# Altium footprint library Battery Holder.PcbLib: 25 footprints (part 2 of 2)
Each footprint in its own frame and in the unit in brackets; x right, y up, seen from the top. Pads: shape width x height; smd on the part's side, far side on the other; paste and mask are expansions set on the pad; w line width, h text height; cw(c..) or ccw(c..) is an arc to the next point about the centre after c.
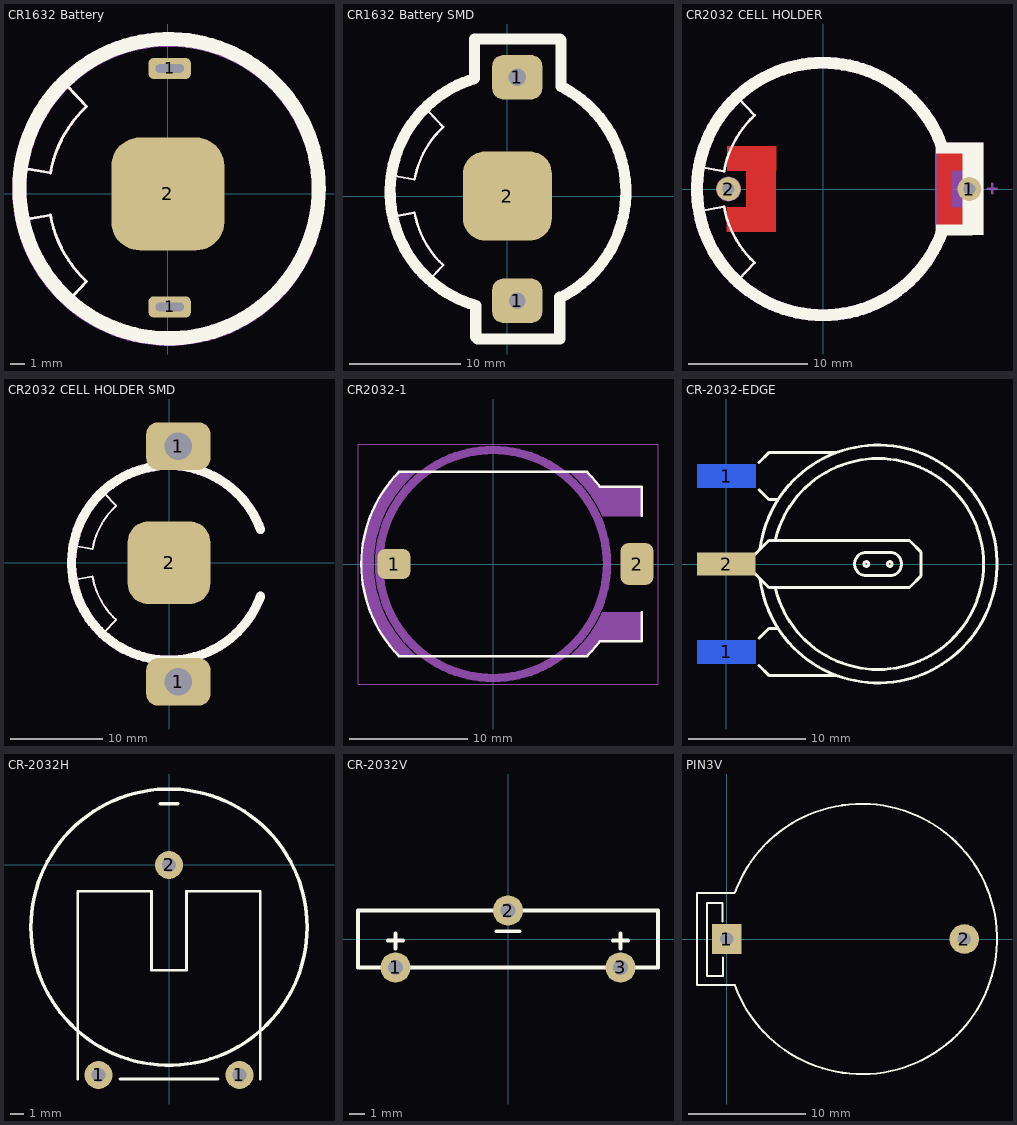
[diagram p1: the footprints below, top view; thin cyan lines are the x and y axes]

## CR1632 Battery [mm]
pads (3):
  rrect50% 3x1.5 hole 0.6 slot 2 at 0 deg: 1(0.127,-8.001) 1(0.127,8.89)
  rrect50% 8x8 smd: 2(0,0)
Top Overlay:
  lines w0.2: -10.325,-1.85 -8.35,-1.5 ; -10.325,1.85 -8.35,1.5 ; -8.325,-1.496 ccw(c0,0) -5.759,-6.195 -7.1,-7.625 ; -8.325,1.496 cw(c0,0) -5.759,6.195 -7.1,7.625
  lines w1: 10.668,-0.133 cw(c0.08,0.377) 10.668,-0.127
Mechanical 7:
  lines w0.2: -10.325,-1.85 -8.35,-1.5 ; -10.325,1.85 -8.35,1.5 ; -8.325,-1.496 ccw(c0,0) -5.759,-6.195 -7.1,-7.625 ; -8.325,1.496 cw(c0,0) -5.759,6.195 -7.1,7.625
  lines w1: 10.022,3.989 ccw(c0.074,0.328) 10.033,-3.302
3D body "keystone 3012-30.step": height 5, standoff -1.73, extent -7.417,-8.509 7.925,9.434
3D body "cr-1632 batt.step": height -0.41, standoff -3.61, extent -8,-7.619 8,8.381

## CR1632 Battery SMD [mm]
pads (3):
  rrect50% 4.5x4 hole 1.5: 1(0.889,-9.398)
  rrect50% 4.5x4 hole 1.6: 1(0.889,10.668)
  rrect50% 8x8 smd: 2(0,0)
Top Overlay:
  lines w0.2: -10.325,-1.85 -8.35,-1.5 ; -10.325,1.85 -8.35,1.5 ; -8.325,-1.496 ccw(c0,0) -5.759,-6.195 -7.1,-7.625 ; -8.325,1.496 cw(c0,0) -5.759,6.195 -7.1,7.625
  lines w0.254: -2.935,14.083 -2.921,14.097 ; -2.84,-12.654 -2.667,-12.827 ; 4.699,14.097 4.799,13.997
  lines w1: -2.935,14.083 -2.935,10.54 ccw(c0.08,0.377) -2.84,-9.813 -2.84,-12.654 ; -2.921,14.097 4.699,14.097 ; -2.667,-12.827 4.699,-12.827 4.699,-9.086 ; 4.797,-9.086 ccw(c0.033,0.383) 4.799,9.851 4.799,13.997
Mechanical 7:
  lines w0.2: -10.325,-1.85 -8.35,-1.5 ; -10.325,1.85 -8.35,1.5 ; -8.325,-1.496 ccw(c0,0) -5.759,-6.195 -7.1,-7.625 ; -8.325,1.496 cw(c0,0) -5.759,6.195 -7.1,7.625
3D body "cr-1632 batt.step": height -0.41, standoff -3.61, extent -7.874,-7.492 8.126,8.508
3D body "keystone 3012-301.step": height 3.97, standoff 0.01, extent -6.579,-10.973 8.763,12.243

## CR2032 CELL HOLDER [mm]
pads (2):
  round 2 hole 1: 1(12.275,0) 2(-7.95,0)
Top Layer:
  region: 10.802,3.591 9.577,3.591 9.577,-3.609 10.802,-3.609
  region: 9.577,-1.534 9.577,-3.609 12.302,-3.609 12.302,-1.534
  region: 12.298,1.534 12.298,3.609 9.573,3.609 9.573,1.534
  region: -8.109,-1.527 -8.109,-3.602 -3.959,-3.602 -3.959,-1.527
  region: -3.941,1.527 -3.941,3.602 -8.09,3.602 -8.09,1.527
  rectangle: -6.475,-3.6 -3.95,3.6
Top Overlay:
  region: 12.59,-3.877 12.59,-3.002 9.466,-3.002 9.466,-3.877
  region: 9.466,3.873 9.466,2.998 12.591,2.998 12.591,3.873
  rectangle: 11.716,-3.877 13.466,3.898
  lines w0.2: -10.325,-1.85 -8.35,-1.5 ; -10.325,1.85 -8.35,1.5 ; -8.325,-1.496 ccw(c0,0) -5.759,-6.195 -7.1,-7.625 ; -8.325,1.496 cw(c0,0) -5.759,6.195 -7.1,7.625 ; 10.4,-3.8 12.5,-3.8 ; 10.425,3.8 12.5,3.8
  lines w1: 9.948,3.661 ccw(c0,0) 9.959,-3.63
Mechanical 7:
  circle w0.4: c-7.95,0 r0.848
  rectangle: 9.398,-3.875 13.475,3.9
  lines w0.2: -10.325,-1.85 -8.35,-1.5 ; -10.325,1.85 -8.35,1.5 ; -8.325,-1.496 ccw(c0,0) -5.759,-6.195 -7.1,-7.625 ; -8.325,1.496 cw(c0,0) -5.759,6.195 -7.1,7.625 ; 13.796,0.026 14.396,0.026 14.596,0.026 ; 14.196,-0.374 14.196,0.426
  lines w1: 9.948,3.661 ccw(c0,0) 9.959,-3.63
3D body: height 0.8, standoff 0.1, extent -8.429,-1.202 -0.041,0.999
3D body: height 0.5, standoff 0, extent -10.561,-10.522 10.658,0.696
3D body: height 6, standoff 0, extent -10.617,-10.589 10.582,10.629
3D body: height 9.9, standoff 0, extent 9.646,-3.974 13.165,3.915
3D body: height 10, standoff 0, extent 12.652,-3.687 13.171,3.441
3D body: height 9, standoff 1, extent 9.725,-3.062 11.187,3.239
3D body: height 0.5, standoff 0, extent -10.565,-0.628 10.654,10.59
3D body: height 0.18, standoff 0, extent 10.984,-0.459 12.876,0.49
3D body: height 0.2, standoff -2.3, extent 11.887,-0.381 12.624,0.381
3D body: height 0.2, standoff -2.3, extent -8.357,-0.418 -7.518,0.395
3D body "CR 2032 Lithium Cell.step": height 5, standoff 1.8, extent -9.873,-10.127 10.127,9.873

## CR2032 CELL HOLDER SMD [mm]
pads (3):
  rrect50% 7x5.2 hole 3: 1(1.016,-12.954) 1(1.016,12.7)
  rrect50% 9x9 smd: 2(0,0)
Top Overlay:
  lines w0.2: -10.325,-1.85 -8.35,-1.5 ; -10.325,1.85 -8.35,1.5 ; -8.325,-1.496 ccw(c0,0) -5.759,-6.195 -7.1,-7.625 ; -8.325,1.496 cw(c0,0) -5.759,6.195 -7.1,7.625
  lines w1: 9.948,3.661 ccw(c0,0) 9.959,-3.63
Mechanical 7:
  lines w0.2: -10.325,-1.85 -8.35,-1.5 ; -10.325,1.85 -8.35,1.5 ; -8.325,-1.496 ccw(c0,0) -5.759,-6.195 -7.1,-7.625 ; -8.325,1.496 cw(c0,0) -5.759,6.195 -7.1,7.625
  lines w1: 9.948,3.661 ccw(c0,0) 9.959,-3.63
3D body "CR 2032 Lithium Cell.step": height 3.2, standoff 0, extent -9.873,-10.127 10.127,9.873
3D body "3002.step": height 3.97, standoff 0.01, extent -8.757,-15.494 11.297,15.24

## CR2032-1 [mil]
pads (2):
  rrect50% 110x100 smd: 1(-330,0)
  rrect50% 110x140 smd: 2(480,0)
Top Overlay:
  lines w8: 495.61,-161.42 495.61,-256.94 355.95,-256.94 cw(c0,0) 313.76,-307.01 -313.76,-307.01 cw(c0,0) -313.76,307.01 313.76,307.01 cw(c0,0) 355.92,256.94 495.61,256.94 495.61,161.42
Mechanical 13:
  circle w28: c0,0 r380
  region: 313.76,-307.01 319.49,-301.15 330.5,-289.02 341.06,-276.49 351.14,-263.57 355.93,-256.93 355.95,-256.94 495.61,-256.94 495.61,-161.42 365.54,-161.42 365.54,-161.44 360.75,-171.88 350.28,-192.33 338.65,-212.14 325.9,-231.25 312.07,-249.6 297.21,-267.12 281.37,-283.76 264.59,-299.46 255.88,-306.94 255.88,-307.01
  region: -313.76,-307.01 -325.66,-294.85 -347.49,-268.77 -367.25,-241.08 -384.8,-211.94 -400.05,-181.53 -412.89,-150.03 -423.26,-117.64 -431.1,-84.53 -436.34,-50.92 -438.98,-17.01 -438.98,17.01 -436.34,50.92 -431.1,84.53 -423.26,117.64 -412.89,150.03 -400.05,181.53 -384.8,211.94 -367.25,241.08 -347.49,268.77 -325.65,294.85 -313.76,307.01 -255.88,307.01 -255.88,306.94 -269.07,295.44 -293.88,270.77 -316.44,244.03 -336.58,215.41 -354.13,185.14 -368.97,153.46 -380.98,120.59 -390.06,86.8 -396.16,52.35 -399.22,17.49 -399.22,-17.49 -396.16,-52.35 -390.06,-86.8 -380.98,-120.59 -368.97,-153.46 -354.13,-185.14 -336.58,-215.41 -316.44,-244.03 -293.88,-270.77 -269.07,-295.44 -255.88,-306.94 -255.88,-307.01
  region: 365.54,161.44 360.75,171.88 350.28,192.33 338.65,212.14 325.9,231.25 312.07,249.6 297.21,267.12 281.37,283.76 264.59,299.46 255.88,306.94 255.88,306.87 313.76,306.87 313.76,307.01 319.49,301.16 330.5,289.03 341.05,276.5 351.13,263.58 355.92,256.94 495.61,256.94 495.61,161.42
  lines w2: -255.88,-306.94 cw(c0,0) -255.88,306.94 ; 255.88,-306.94 ccw(c0,0) 365.54,-161.44 ; 255.88,306.87 313.76,306.87 ; 255.88,306.94 cw(c0,0) 365.54,161.44 ; 255.88,307.01 -313.76,307.01 ccw(c0,0) -313.76,-307.01 255.88,-307.01 313.76,-307.01 ccw(c0,0) 355.93,-256.93 495.61,-256.94 495.61,-161.42 365.54,-161.42 ; 313.76,307.01 cw(c0,0) 355.92,256.94 495.61,256.94 495.61,161.42 365.5,161.42
Mechanical 14:
  lines w2: -450,-400 -450,400 550,400 550,-400 -450,-400
  text ".Designator" at -65,-25 h50
3D body "User Library-BLP2032M-G.STEP": height 191.34, standoff 0, extent -425.12,-297.24 510.32,297.25

## CR-2032-EDGE [mm]
pads (3):
  rect 5x2 smd far side: 1(0,-7.5) 1(0,7.5)
  rect 5x2 smd: 2(0,0)
Top Overlay:
  circle w0.254: c11.954,0 r0.2
  circle w0.254: c13.954,0 r0.2
  lines w0.254: 2.794,-8.669 3.625,-9.5 9.398,-9.5 ; 2.794,-6.331 3.625,-5.5 4.318,-5.5 ; 2.794,6.331 3.625,5.5 4.318,5.5 ; 2.794,8.669 3.625,9.5 9.398,9.5 ; 2.884,-1.271 ccw(c12.954,0) 2.884,1.271 ; 4.2,-2.089 ccw(c12.954,0) 4.2,2.089 ; -2,-0.375 2,-0.375 3.625,-2 15.637,-2 16.637,-1 16.637,1 15.637,2 3.625,2 2,0.375 -2,0.375 -2,-0.375 ; 11.954,-1 cw(c11.954,0) 11.954,1 13.954,1 cw(c13.954,0) 13.954,-1 11.954,-1
Bottom Overlay:
  lines w0.254: 2.54,-8.415 2,-7.875 -2,-7.875 -2,-7.125 2,-7.125 2.54,-6.585 ; 2.54,6.585 2,7.125 -2,7.125 -2,7.875 2,7.875 2.54,8.415
3D body "User Library-ML2032 T26.step": height 1.6, standoff -2.2, extent -4.546,-10 22.954,10

## CR-2032H [mil]
pads (3):
  round 80 hole 40 mask+4: 1(-200.79,-598.43) 1(200.79,-598.43) 2(0,0)
Top Overlay:
  circle w10: c0,-177.17 r393.7
  lines w8: -260,-610 -260,-75 -50,-75 -50,-300 50,-300 50,-75 260,-75 260,-610 ; -140,-610 140,-610
  lines w10: -25,175 25,175
3D body "User Library-cr2032 pcb, lithium battery-1.step": height 269.84, standoff -172.01, extent -393.68,-578.5 393.7,218.7

## CR-2032V [mil]
pads (3):
  round 80 hole 40 mask+4: 1(-295.28,-74.8) 2(0,74.8) 3(295.28,-74.8)
Top Overlay:
  lines w10: -315,-3.94 -275,-3.94 ; -295,-24.8 -295,15.2 ; -30,20.2 30,20.2 ; 275.55,-3.94 315.55,-3.94 ; 295.55,-24.8 295.55,15.2 ; -393.7,-74.8 -393.7,74.8 393.7,74.8 393.7,-74.8 -393.7,-74.8
3D body "User Library-ML2032 T26.step": height 925.2, standoff -157.48, extent -393.69,-72.87 393.71,76.74

## PIN3V [mil] "Socket PIN 3V"
pads (2):
  rect 100x100 hole 45: 1(0,0)
  round 100 hole 45: 2(800,0)
Top Overlay:
  lines w7: -14,59 -14,121 -66,121 -66,-124 -13,-124 -13,-63 ; 26.33,155 -100,155 -100,-155 27.93,-155 ; 27.6,156.07 cw(c455,0) 27.93,-156.97
3D body "CR 2032 Lithium Cell.step": height 236.22, standoff 110.24, extent 167.6,-403.7 955,383.7
3D body "batter2.STEP": height 278.16, standoff -137.2, extent -128.09,-446.83 1001.83,448.83